# EAGLE library part 93-* (library microchip-rp)
Serial EEPROM 512 x 8 bit/256 x 16 bit/1 K/4 K, 5.0 V, Microwire
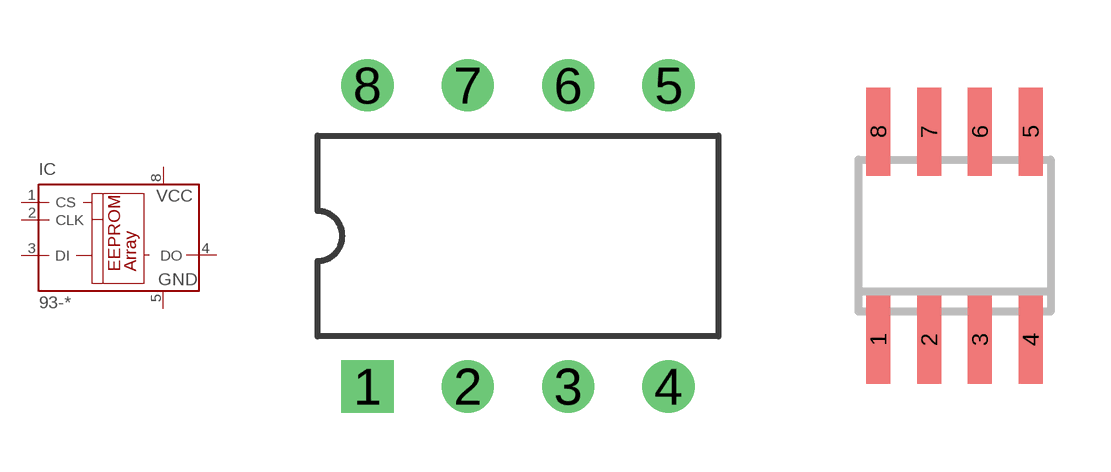
[diagram p30: symbol with the pads of DIL8; footprints DIL8, SO-08]

Designator prefix IC

## 93-C46AP (MF: MICROCHIP; MPN: 93C46A-I/P; OC_FARNELL: 1847808; OC_NEWARK: 92C7591), 93-C46BP (MF: MICROCHIP; MPN: 93C46B/P; OC_FARNELL: 1084337; OC_NEWARK: 69K7676), 93-C56AP (MF: MICROCHIP; MPN: 93C56A-E/P; OC_FARNELL: unknown; OC_NEWARK: 92C7619), 93-C56BP (MF: MICROCHIP; MPN: 93C56B-I/P; OC_FARNELL: 1718065; OC_NEWARK: 61H6567), 93-C66AP (MF: MICROCHIP; MPN: 93C66A-I/P; OC_FARNELL: 1818607; OC_NEWARK: 61H6596), 93-C66BP (MF: MICROCHIP; MPN: 93C66B-I/P; OC_FARNELL: 1818523; OC_NEWARK: 61H6625), 93-LC56AP (MF: MICROCHIP; MPN: 93LC56A/P; OC_FARNELL: 1212671; OC_NEWARK: 75K5894), 93-LC56BP (MF: MICROCHIP; MPN: 93LC56B/P; OC_FARNELL: 1084250; OC_NEWARK: 96K4108)  [DIL8]
1  CS  in
2  CLK  in
3  DI  in
4  DO  hiz
5  GND  pwr
8  VCC  pwr

## 93-C46ASN (MF: MICROCHIP; MPN: 93C46A-I/SN; OC_FARNELL: 1816075; OC_NEWARK: 92C7592), 93-C46BSN (MF: MICROCHIP; MPN: 93C46B/SN; OC_FARNELL: 9758178; OC_NEWARK: 75K5893), 93-C56ASN (MF: MICROCHIP; MPN: 93C56A-I/SN; OC_FARNELL: 1815962; OC_NEWARK: 61H6540), 93-C56BSN (MF: MICROCHIP; MPN: 93C56B-I/SN; OC_FARNELL: 1847100; OC_NEWARK: 61H6569), 93-C66ASN (MF: MICROCHIP; MPN: 93C66A-I/SN; OC_FARNELL: 1847311; OC_NEWARK: 61H6598), 93-C66BSN (OC_FARNELL: unknown; OC_NEWARK: unknown), 93-LC56ASN (MF: MICROCHIP; MPN: 93LC56A/SN; OC_FARNELL: 1212672; OC_NEWARK: 33C3019), 93-LC56BSN (MF: MICROCHIP; MPN: 93LC56B/SN; OC_FARNELL: 9758240; OC_NEWARK: 96K4109)  [SO-08]
Pads as for DIL8

## 93-C46AST (MPN: CAT93C46YI-G; OC_FARNELL: 1718375; OC_NEWARK: 74P0100), 93-C46BST (MF: MICROCHIP; MPN: 93C46B/ST; OC_FARNELL: unknown; OC_NEWARK: 92C7605), 93-LC56AST (MF: MICROCHIP; MPN: 93LC56A-E/ST; OC_FARNELL: unknown; OC_NEWARK: 30H4734), 93-LC56BST (MF: MICROCHIP; MPN: 93LC56B-E/ST; OC_FARNELL: unknown; OC_NEWARK: 30H4749)  [TSSOP8]
Pads as for DIL8

## 93-C46ASM (MF: MICROCHIP; MPN: 93C46A-I/SN; OC_FARNELL: 1816075; OC_NEWARK: 92C7592), 93-C46BSM (MF: MICROCHIP; MPN: 93C46B/SN; OC_FARNELL: 9758178; OC_NEWARK: 75K5893), 93-LC56ASM (MF: MICROCHIP; MPN: 93LC56A/SN; OC_FARNELL: 1212672; OC_NEWARK: 33C3019), 93-LC56BSM (MF: MICROCHIP; MPN: 93LC56B/SN; OC_FARNELL: 9758240; OC_NEWARK: 96K4109)  [SO-08M]
Pads as for DIL8

## Footprint DIL8 (pad centres in mm)
Dual In Line package type P
drill 0.813 square: 1 -3.81,-3.81
drill 0.813 round: 2 -1.27,-3.81; 3 1.27,-3.81; 4 3.81,-3.81; 5 3.81,3.81; 6 1.27,3.81; 7 -1.27,3.81; 8 -3.81,3.81

## Footprint SO-08 (pad centres in mm)
Small Outline Narrow Plastic Gull Wing 150-mil body, package type SN
smd 0.6 x 2.2: 1 -1.905,-2.6; 2 -0.635,-2.6; 3 0.635,-2.6; 4 1.905,-2.6; 5 1.905,2.6; 6 0.635,2.6; 7 -0.635,2.6; 8 -1.905,2.6

## Footprint TSSOP8 (pad centres in mm)
Thin Shrink Small Outline Package package type ST
smd 0.35 x 1.2: 1 -0.975,-2.925; 2 -0.325,-2.925; 3 0.325,-2.925; 4 0.975,-2.925; 5 0.975,2.925; 6 0.325,2.925; 7 -0.325,2.925; 8 -0.975,2.925

## Footprint SO-08M (pad centres in mm)
Small Outline Medium Plastic Gull Wing 207-mil body, package type SM
smd 0.6 x 2.2: 1 -1.905,-3.33; 2 -0.635,-3.33; 3 0.635,-3.33; 4 1.905,-3.33; 5 1.905,3.33; 6 0.635,3.33; 7 -0.635,3.33; 8 -1.905,3.33